# Altium footprint library TIP120.PcbLib: 2 footprints
Each footprint in its own frame and in the unit in brackets; x right, y up, seen from the top. Pads: shape width x height; smd on the part's side, far side on the other; paste and mask are expansions set on the pad; w line width, h text height; cw(c..) or ccw(c..) is an arc to the next point about the centre after c.
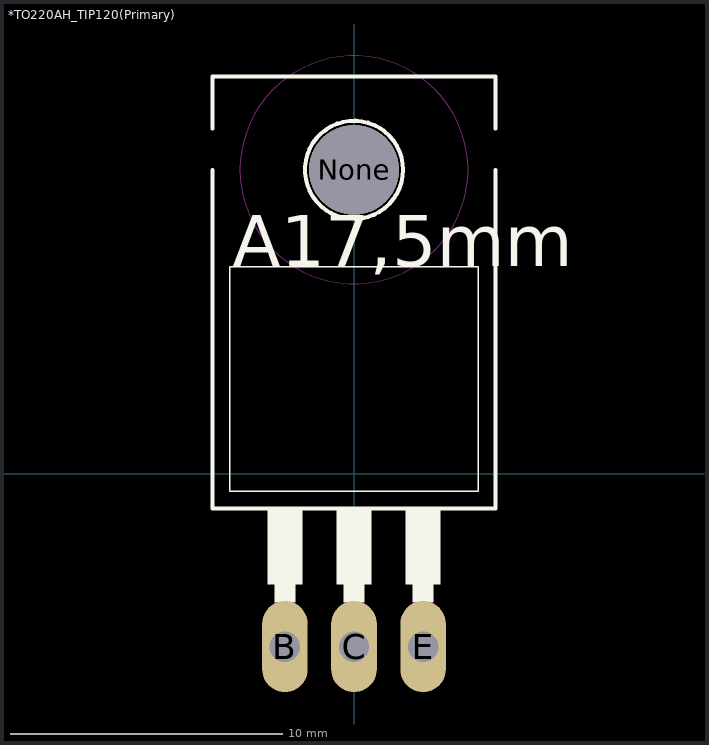
[diagram p0: the footprints below, top view; thin cyan lines are the x and y axes]

## *TO220AH_TIP120(Primary) [mil]
pads (4):
  oval 66x132 hole 44: B(-100,-250) C(0,-250) E(100,-250)
  round 130 hole 130 unplated: None(0,440)
Top Overlay:
  circle w6: c0,440 r71
  region: 75.04,-50 125,-50 125,-160.08 75.04,-160.08
  region: -25.02,-50 25,-50 25,-160.11 -25.02,-160.11
  region: -125.06,-50 -75,-50 -75,-160.08 -125.06,-160.08
  region: -115.03,-160 -85,-160 -85,-185.04 -115.03,-185.04
  region: -15.01,-160 15,-160 15,-185.07 -15.01,-185.07
  region: 85.15,-160 115,-160 115,-185.33 85.15,-185.33
  lines w2: -180,-25 -180,300 180,300 180,-25 -180,-25
  lines w6: -205,440 -205,-50 205,-50 205,440 ; -205,500 -205,575 205,575 205,500
  text "A17,5mm" at -175.15,300.43 h73.82
Keep-Out Layer:
  circle w0: c0,440 r165
  circle w0: c0,440 r165
  circle w0: c0,440 r165
  circle w0: c0,440 r165
  circle w0: c0,440 r165
  circle w0: c0,440 r165
Mechanical 4:
  region: 85.09,-185 115,-185 115,-260.26 85.09,-260.26
  region: -15.03,-185 15,-185 15,-260.43 -15.03,-260.43
  region: -115.17,-185 -85,-185 -85,-260.38 -115.17,-260.38
  region: 85.09,-185 115,-185 115,-260.26 85.09,-260.26
  region: -15.03,-185 15,-185 15,-260.43 -15.03,-260.43
  region: -115.17,-185 -85,-185 -85,-260.38 -115.17,-260.38

## PCBComponent_1 [mil]